# EAGLE library part LTC6081HMS8PBF (library LTC6081)
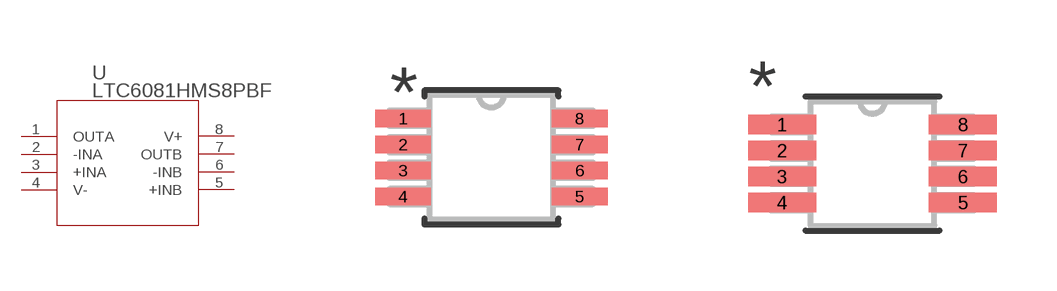
[diagram p0: symbol with the pads of MSOP-8_MS; footprints MSOP-8_MS, MSOP-8_MS-M]

Designator prefix U

## LTC6081HMS8PBF (MANUFACTURER_PART_NUMBER: ltc6081hms8#pbf; VENDOR: LinearTech)  [MSOP-8_MS]
1  OUTA  out
2  -INA  in
3  +INA  in
4  V-  pwr
5  +INB  in
6  -INB  in
7  OUTB  out
8  V+  pwr

## LTC6081HMS8PBFMSOP-8_MS-M (MANUFACTURER_PART_NUMBER: ltc6081hms8#pbf; VENDOR: LinearTech)  [MSOP-8_MS-M]
Pads as for MSOP-8_MS

## LTC6081HMS8PBFMSOP-8_MS-L (MANUFACTURER_PART_NUMBER: ltc6081hms8#pbf; VENDOR: LinearTech)  [MSOP-8_MS-L]
Pads as for MSOP-8_MS

## Footprint MSOP-8_MS (pad centres in mm)
smd 1.397 x 0.432: 1 -2.21,0.975; 2 -2.21,0.325; 3 -2.21,-0.325; 4 -2.21,-0.975; 5 2.21,-0.975; 6 2.21,-0.325; 7 2.21,0.325; 8 2.21,0.975

## Footprint MSOP-8_MS-M (pad centres in mm)
smd 1.702 x 0.483: 1 -2.261,0.975; 2 -2.261,0.325; 3 -2.261,-0.325; 4 -2.261,-0.975; 5 2.261,-0.975; 6 2.261,-0.325; 7 2.261,0.325; 8 2.261,0.975

## Footprint MSOP-8_MS-L (pad centres in mm)
smd 1.092 x 0.381: 1 -2.159,0.975; 2 -2.159,0.325; 3 -2.159,-0.325; 4 -2.159,-0.975; 5 2.159,-0.975; 6 2.159,-0.325; 7 2.159,0.325; 8 2.159,0.975